# Altium schematic symbol library CAP - GRJ31CC7ZAA475KE01K.SchLib: 1 symbol
Pins are listed as number, name and electrical type; pins without a type are passive.

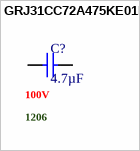
[diagram p0: symbol GRJ31CC72A475KE01K]

## GRJ31CC72A475KE01K
designator C?, comment 4.7µF  .Case/Package: 1206  .Voltage Rating (DC): 100V
Ceramic Capacitor, Multilayer, Ceramic, 100V, 10% +Tol, 10% -Tol, X7S, 22% TC, 4.7uF, Surface Mount, 1206; Manufacturer: Murata; Manufacturer Part Number: GRJ31CC72A475KE01K; Manufacturer Lifecycle Status: IN PRODUCTION; Supplier: Mouser; Supplier Part Number: 81-GRJ31CC72A475KE1K; RoHS: Compliant; Category: Ceramic Capacitors; Stock: 47114; Pricing: 1=0,8, 10=0,387, 50=0,387, 100=0,351, 1000=0,272, 10000=0,242 (USD); Value: 4.7µF; Case/Package: 1206; Dielectric: X7S; Dielectric Material: Ceramic; Height: 1.6mm; Length: 3.2mm; Lifecycle Status: Production; Max Operating Temperature: 125°C; Min Operating Temperature: -55°C; Mounting Technology: Surface Mount; Number of Terminals: 2; REACH SVHC: Yes; Thickness: 1.6mm; Voltage Rating (DC): 100V; Width: 1.6mm; ComponentLink1URL: https://datasheet.octopart.com:443/GRJ31CC72A475KE01K-Murata-datasheet-165579666.pdf?src-supplier=TME; ComponentLink1Description: https://datasheet.octopart.com:443/GRJ31CC72A475KE01K-Murata-datasheet-165579666.pdf?src-supplier=TME; ComponentLink2URL: https://datasheet.octopart.com/GRJ31CC72A475KE01K-Murata-datasheet-12515295.pdf; ComponentLink2Description: https://datasheet.octopart.com/GRJ31CC72A475KE01K-Murata-datasheet-12515295.pdf; ComponentLink3URL: https://datasheet.octopart.com/GRJ31CC72A475KE01K-Murata-datasheet-12510076.pdf; ComponentLink3Description: https://datasheet.octopart.com/GRJ31CC72A475KE01K-Murata-datasheet-12510076.pdf; ComponentLink4URL: https://datasheet.octopart.com/GRJ31CC72A475KE01K-Murata-datasheet-11978611.pdf; ComponentLink4Description: https://datasheet.octopart.com/GRJ31CC72A475KE01K-Murata-datasheet-11978611.pdf; ComponentLink5URL: https://datasheet.octopart.com/GRJ31CC72A475KE01K-Murata-datasheet-10025737.pdf; ComponentLink5Description: https://datasheet.octopart.com/GRJ31CC72A475KE01K-Murata-datasheet-10025737.pdf; ComponentLink6URL: https://datasheet.octopart.com/GRJ31CC72A475KE01K-Murata-datasheet-8819587.pdf; ComponentLink6Description: https://datasheet.octopart.com/GRJ31CC72A475KE01K-Murata-datasheet-8819587.pdf; ComponentLink7URL: http://sigma.octopart.com:80/reach_statement/Murata-company-16.pdf?src-supplier=Compliance+Statements; ComponentLink7Description: http://sigma.octopart.com:80/reach_statement/Murata-company-16.pdf?src-supplier=Compliance+Statements; Supplier 1: Mouser; Supplier Part Number 1: 81-GRJ31CC72A475KE1K
footprint CAPC3216X19N (Chip Capacitor, 2-Leads, Body 3,20x1,60mm, IPC Medium Density)
pins: 1, 2